# Altium footprint library 2N7002WT1G.PcbLib: 3 footprints
Each footprint in its own frame and in the unit in brackets; x right, y up, seen from the top. Pads: shape width x height; smd on the part's side, far side on the other; paste and mask are expansions set on the pad; w line width, h text height; cw(c..) or ccw(c..) is an arc to the next point about the centre after c.
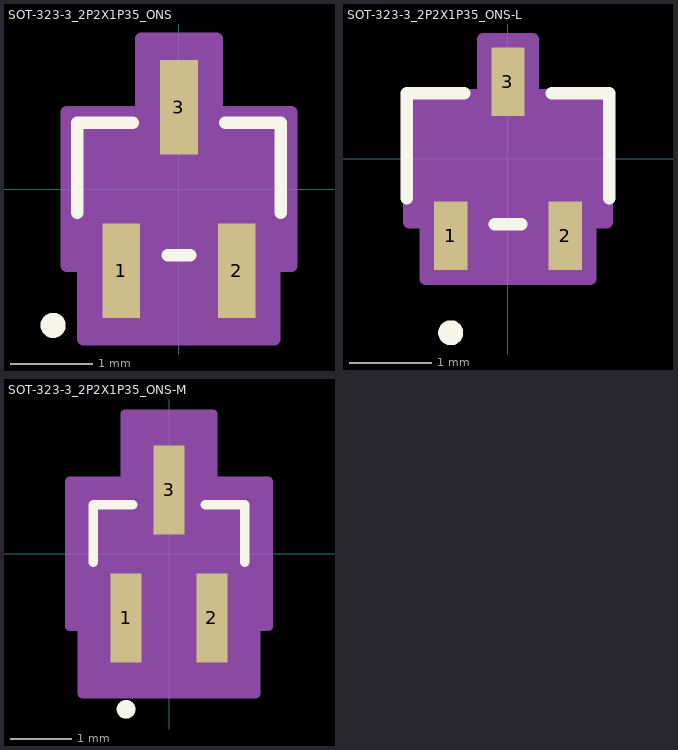
[diagram p0: the footprints below, top view; thin cyan lines are the x and y axes]

## SOT-323-3_2P2X1P35_ONS [mil]
pads (3):
  rect 18x45 smd paste+0 mask+0: 1(-27.5,-39) 2(27.5,-39) 3(0,39)
Top Overlay:
  circle w6: c-60,-65 r3
  lines w6: -48.5,-11.25 -48.5,31.5 -22.1,31.5 ; -5.4,-31.5 5.4,-31.5 ; 22.1,31.5 48.5,31.5 48.5,-11.25
Mechanical 13:
  circle w0: c-27.5,-16.5 r3
  lines w1: -43.5,-26.5 43.5,-26.5 43.5,26.5 -43.5,26.5 -43.5,-26.5 ; -35.5,-47.5 -35.5,-26.5 -19.5,-26.5 -19.5,-47.5 -35.5,-47.5 ; -8,26.5 8,26.5 8,47.5 -8,47.5 -8,26.5 ; 19.5,-47.5 19.5,-26.5 35.5,-26.5 35.5,-47.5 19.5,-47.5
Mechanical 15:
  region: -53.5,-36.5 -53.5,36.5 -18,36.5 -18,71.5 18,71.5 18,36.5 53.5,36.5 53.5,-36.5 45.5,-36.5 45.5,-71.5 -45.5,-71.5 -45.5,-36.5
  lines w6: -53.5,-36.5 -53.5,36.5 -18,36.5 -18,71.5 18,71.5 18,36.5 53.5,36.5 53.5,-36.5 45.5,-36.5 45.5,-71.5 -45.5,-71.5 -45.5,-36.5 -53.5,-36.5
3D body "SOT-323-3_2P2X1P35_ONS.step": height 40.12, standoff 0, extent -43.5,-47.52 43.5,47.52

## SOT-323-3_2P2X1P35_ONS-L [mil]
pads (3):
  rect 16x33 smd paste+0 mask+0: 1(-27.5,-37) 2(27.5,-37) 3(0,37)
Top Overlay:
  circle w6: c-27.5,-83.5 r3
  lines w6: -48.5,-18.88 -48.5,31.5 -21.1,31.5 ; -6.4,-31.5 6.4,-31.5 ; 21.1,31.5 48.5,31.5 48.5,-18.88
Mechanical 13:
  circle w0: c-27.5,-16.5 r3
  lines w1: -43.5,-26.5 43.5,-26.5 43.5,26.5 -43.5,26.5 -43.5,-26.5 ; -35.5,-47.5 -35.5,-26.5 -19.5,-26.5 -19.5,-47.5 -35.5,-47.5 ; -8,26.5 8,26.5 8,47.5 -8,47.5 -8,26.5 ; 19.5,-47.5 19.5,-26.5 35.5,-26.5 35.5,-47.5 19.5,-47.5
Mechanical 15:
  region: -47.5,-30.5 -47.5,30.5 -12,30.5 -12,57.5 12,57.5 12,30.5 47.5,30.5 47.5,-30.5 39.5,-30.5 39.5,-57.5 -39.5,-57.5 -39.5,-30.5
  lines w6: -47.5,-30.5 -47.5,30.5 -12,30.5 -12,57.5 12,57.5 12,30.5 47.5,30.5 47.5,-30.5 39.5,-30.5 39.5,-57.5 -39.5,-57.5 -39.5,-30.5 -47.5,-30.5
3D body "SOT-323-3_2P2X1P35_ONS.step": height 40.12, standoff 0, extent -43.5,-47.52 43.5,47.52

## SOT-323-3_2P2X1P35_ONS-M [mil]
pads (3):
  rect 20x57 smd paste+0 mask+0: 1(-27.5,-41) 2(27.5,-41) 3(0,41)
Top Overlay:
  circle w6: c-27.5,-99.5 r3
  lines w6: -48.5,-5.39 -48.5,31.5 -23.1,31.5 ; 23.1,31.5 48.5,31.5 48.5,-5.39
Mechanical 13:
  circle w0: c-27.5,-16.5 r3
  lines w1: -43.5,-26.5 43.5,-26.5 43.5,26.5 -43.5,26.5 -43.5,-26.5 ; -35.5,-47.5 -35.5,-26.5 -19.5,-26.5 -19.5,-47.5 -35.5,-47.5 ; -8,26.5 8,26.5 8,47.5 -8,47.5 -8,26.5 ; 19.5,-47.5 19.5,-26.5 35.5,-26.5 35.5,-47.5 19.5,-47.5
Mechanical 15:
  region: -63.5,-46.5 -63.5,46.5 -28,46.5 -28,89.5 28,89.5 28,46.5 63.5,46.5 63.5,-46.5 55.5,-46.5 55.5,-89.5 -55.5,-89.5 -55.5,-46.5
  lines w6: -63.5,-46.5 -63.5,46.5 -28,46.5 -28,89.5 28,89.5 28,46.5 63.5,46.5 63.5,-46.5 55.5,-46.5 55.5,-89.5 -55.5,-89.5 -55.5,-46.5 -63.5,-46.5
3D body "SOT-323-3_2P2X1P35_ONS.step": height 40.12, standoff 0, extent -43.5,-47.52 43.5,47.52